# Altium footprint library INF-MG-WDSON-2-4_V.PcbLib: 1 footprints
Each footprint in its own frame and in the unit in brackets; x right, y up, seen from the top. Pads: shape width x height; smd on the part's side, far side on the other; paste and mask are expansions set on the pad; w line width, h text height; cw(c..) or ccw(c..) is an arc to the next point about the centre after c.
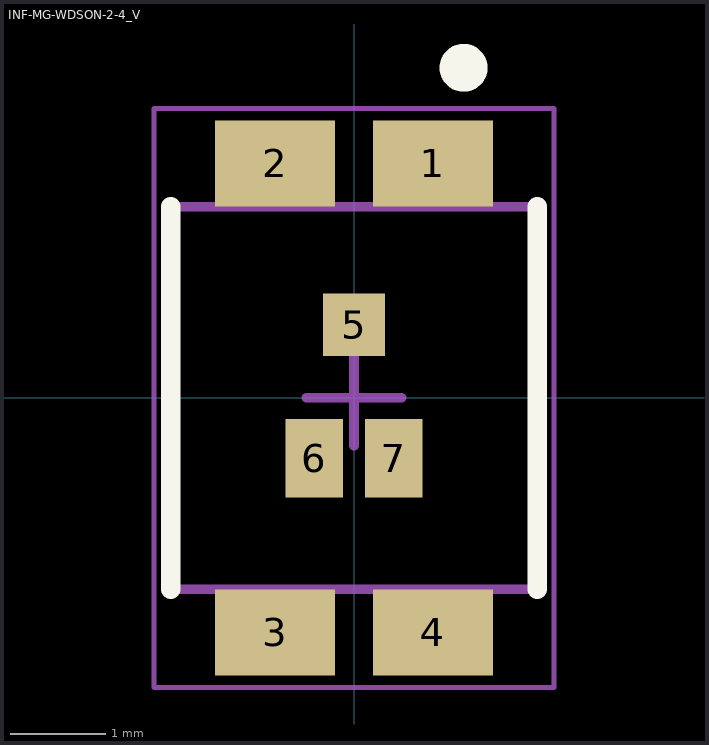
[diagram p0: the footprint, top view; thin cyan lines are the x and y axes]

## INF-MG-WDSON-2-4_V [mm] "WDSON, 7-Leads, Body 4x3.83mm"
height 0.68
pads (7):
  rect 1.25x0.9 smd: 1(0.825,2.45) 2(-0.825,2.45) 3(-0.825,-2.45) 4(0.825,-2.45)
  rect 0.65x0.65 smd: 5(0,0.765)
  rect 0.6x0.82 smd: 6(-0.415,-0.63) 7(0.415,-0.63)
Top Overlay:
  circle w0.25: c1.145,3.45 r0.125
  lines w0.2: -1.915,-2 -1.915,2 ; 1.915,-2 1.915,2
Mechanical 13:
  lines w0.1: -1.915,-2 -1.915,2 1.915,2 1.915,-2 -1.915,-2
Mechanical 15:
  lines w0.05: -2.09,-3.025 -2.09,3.025 2.09,3.025 2.09,-3.025 -2.09,-3.025
  lines w0.1: -0.5,0 0.5,0 ; 0,-0.5 0,0.5
3D body: height 0.68, standoff 0.02, extent -1.915,-2 1.915,2